# EAGLE library part CON-AMP_SMDTOP-6 (library amp)
AMP connector
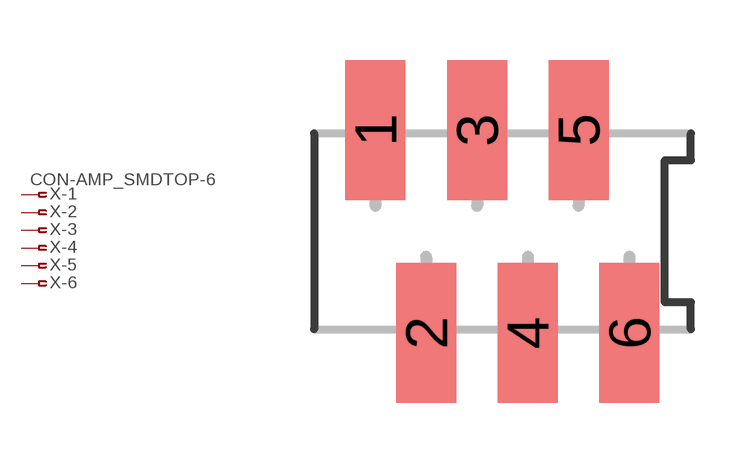
[diagram p0: symbol with the pads of CON-AMP_SMDTOP6; footprint CON-AMP_SMDTOP6]

Designator prefix X; gates -1=CON-AMP_PIN-FV -2=CON-AMP_PIN-F -3=CON-AMP_PIN-F -4=CON-AMP_PIN-F -5=CON-AMP_PIN-F -6=CON-AMP_PIN-F

## CON-AMP_SMDTOP-6  [CON-AMP_SMDTOP6]
1  -1:1  pas
2  -2:1  pas
3  -3:1  pas
4  -4:1  pas
5  -5:1  pas
6  -6:1  pas

## Footprint CON-AMP_SMDTOP6 (pad centres in mm)
AMP connector
smd 1.5 x 3.5: 1 -3.175,2.54; 2 -1.905,-2.54; 3 -0.635,2.54; 4 0.635,-2.54; 5 1.905,2.54; 6 3.175,-2.54